# EAGLE library part CURRENT_MEAS_D_V02 (library current_meas)
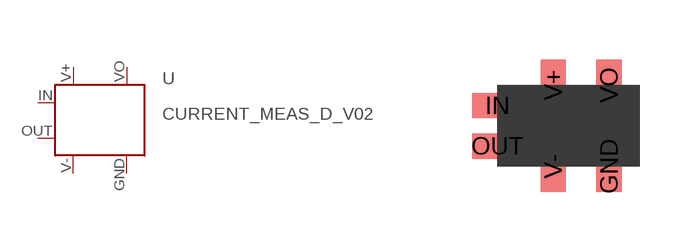
[diagram p1: symbol with the pads of CURRENT_MEAS_P_V02; footprint CURRENT_MEAS_P_V02]

Designator prefix -

## CURRENT_MEAS_D_V02  [CURRENT_MEAS_P_V02]
GND  GND  sup
IN  IN  in
OUT  OUT  out
V+  V+  pwr
V-  V-  pwr
VO  VO  out

## Footprint CURRENT_MEAS_P_V02 (pad centres in mm)
smd 0.635 x 1.27: GND 1.905,-1.016; V+ 0.508,1.016; V- 0.508,-1.016; VO 1.905,1.016
smd 1.27 x 0.635: IN -0.889,0.508; OUT -0.889,-0.508